# Altium footprint library 8-SOIC-WIDE.PcbLib: 1 footprints
Each footprint in its own frame and in the unit in brackets; x right, y up, seen from the top. Pads: shape width x height; smd on the part's side, far side on the other; paste and mask are expansions set on the pad; w line width, h text height; cw(c..) or ccw(c..) is an arc to the next point about the centre after c.
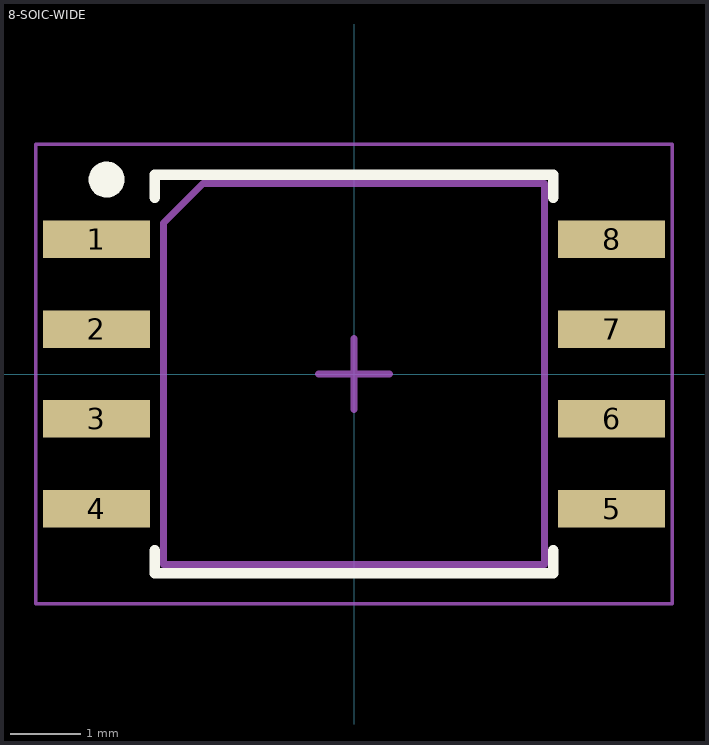
[diagram p0: the footprint, top view; thin cyan lines are the x and y axes]

## 8-SOIC-WIDE [mil]
pads (8):
  rect 59.56x20.97 smd paste+0 mask+0: 1(-143.5,75) 2(-143.5,25) 3(-143.5,-25) 4(-143.5,-75) 5(143.5,-75) 6(143.5,-25) 7(143.5,25) 8(143.5,75)
Top Overlay:
  circle w10: c-137.8,108.27 r5
  lines w6: -111,-98.3 -111,-111 111,-111 111,-98.3 ; -111,98.3 -111,111 111,111 111,98.3
Mechanical 1:
  lines w3.94: -106,-106 -106,84 -84,106 106,106 106,-106 -106,-106
  text ".Designator" at -130.08,-11.55 h25.59
Mechanical 2:
  lines w1.97: -177.17,-127.95 -177.17,127.95 177.17,127.95 177.17,-127.95 -177.17,-127.95
  lines w3.94: -19.68,0 19.68,0 ; 0,-19.68 0,19.68
3D body "SOIC_208MIL_WIN.step": height 85.12, standoff 0, extent -159.49,-105.98 159.49,105.99